# Altium footprint library MF_IC_Digital.PCBLIB: 16 footprints
Each footprint in its own frame and in the unit in brackets; x right, y up, seen from the top. Pads: shape width x height; smd on the part's side, far side on the other; paste and mask are expansions set on the pad; w line width, h text height; cw(c..) or ccw(c..) is an arc to the next point about the centre after c.
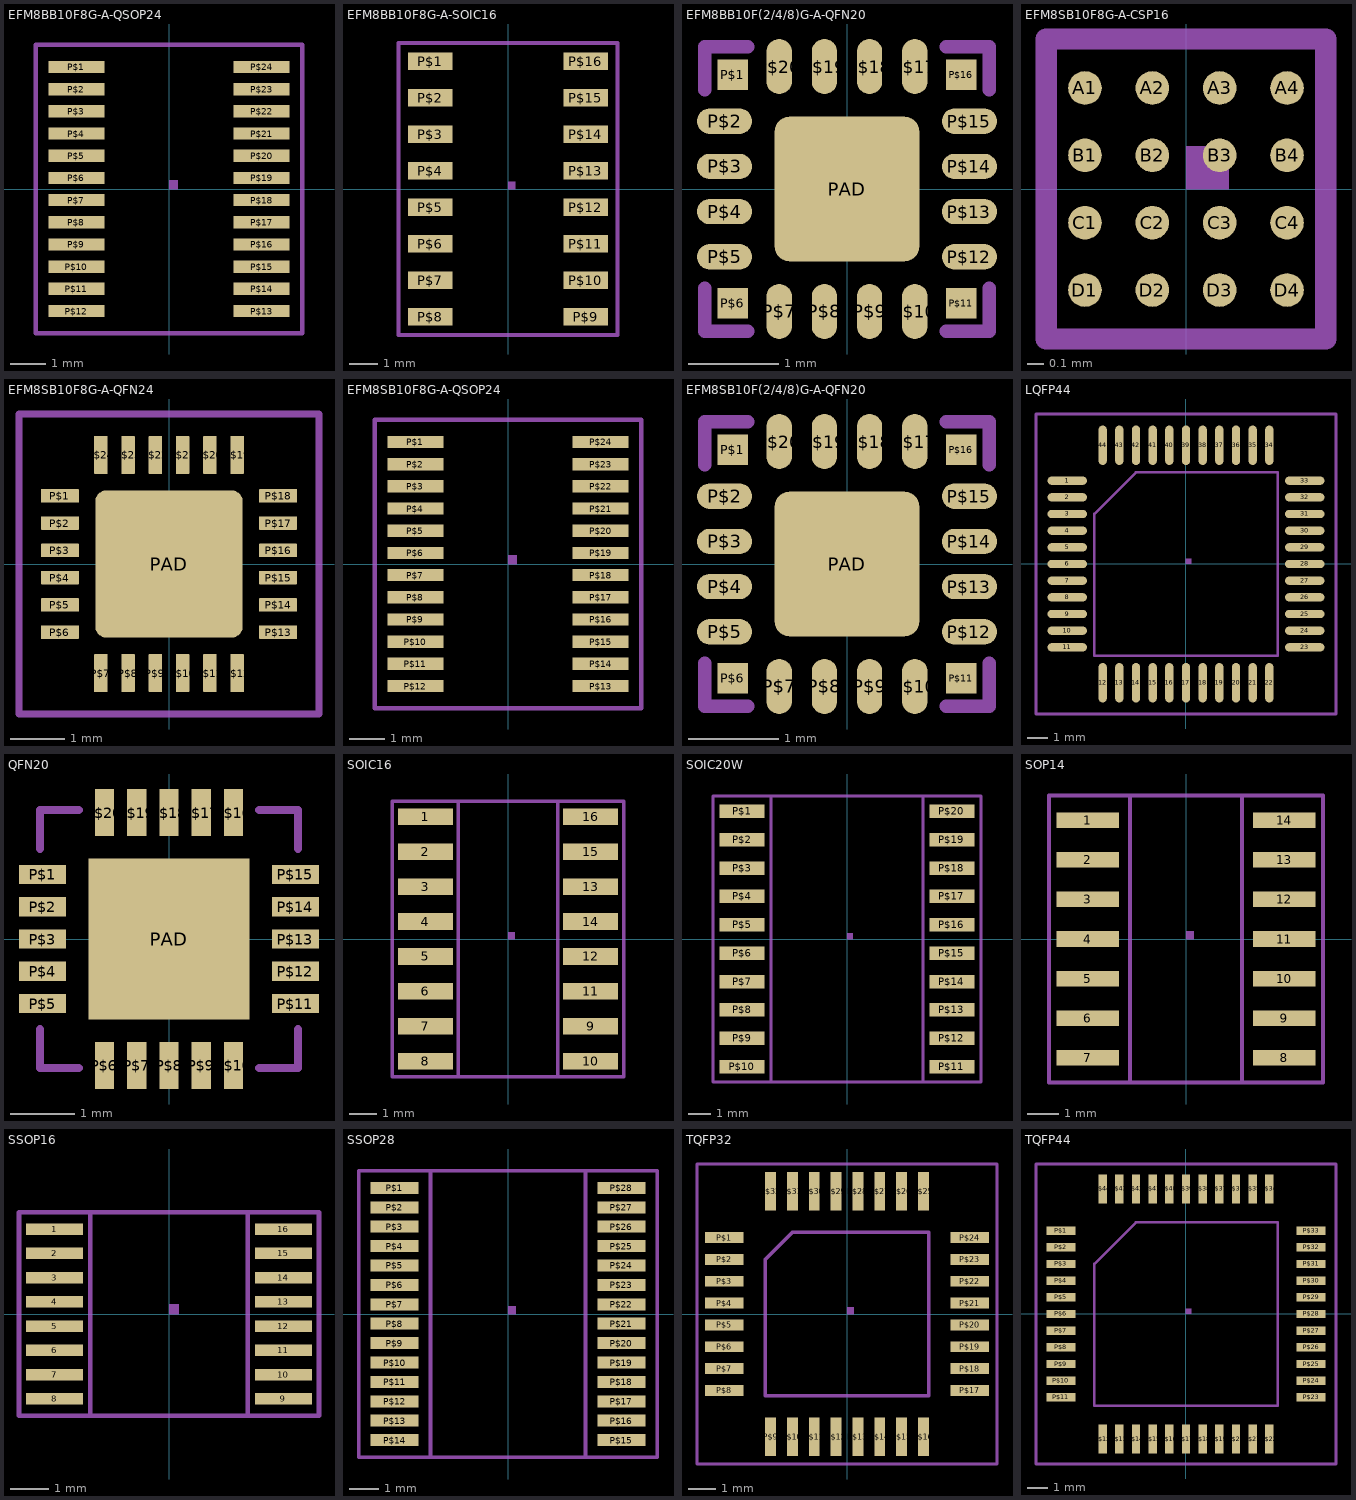
[diagram p0: the footprints below, top view; thin cyan lines are the x and y axes]

## EFM8BB10F8G-A-QSOP24 [mm]
pads (24):
  rect 1.6x0.35 smd: P$1(-2.65,3.492) P$2(-2.65,2.857) P$3(-2.65,2.222) P$4(-2.65,1.587) P$5(-2.65,0.953) P$6(-2.65,0.318) P$7(-2.65,-0.318) P$8(-2.65,-0.953) P$9(-2.65,-1.587) P$10(-2.65,-2.222) P$11(-2.65,-2.857) P$12(-2.65,-3.492) P$13(2.65,-3.492) P$14(2.65,-2.857) P$15(2.65,-2.222) P$16(2.65,-1.587) P$17(2.65,-0.953) P$18(2.65,-0.318) P$19(2.65,0.318) P$20(2.65,0.953) P$21(2.65,1.587) P$22(2.65,2.222) P$23(2.65,2.857) P$24(2.65,3.492)
Mechanical 22:
  region: 0,0 0.254,0 0.254,0.254 0,0.254
  region: 0,0 0.254,0 0.254,0.254 0,0.254
  lines w0.127: -3.81,-4.127 3.81,-4.127 3.81,4.127 -3.81,4.127 -3.81,-4.127

## EFM8BB10F8G-A-SOIC16 [mm]
pads (16):
  rect 1.55x0.6 smd: P$1(-2.7,4.445) P$2(-2.7,3.175) P$3(-2.7,1.905) P$4(-2.7,0.635) P$5(-2.7,-0.635) P$6(-2.7,-1.905) P$7(-2.7,-3.175) P$8(-2.7,-4.445) P$9(2.7,-4.445) P$10(2.7,-3.175) P$11(2.7,-1.905) P$12(2.7,-0.635) P$13(2.7,0.635) P$14(2.7,1.905) P$15(2.7,3.175) P$16(2.7,4.445)
Mechanical 22:
  region: 0,0 0.254,0 0.254,0.254 0,0.254
  region: 0,0 0.254,0 0.254,0.254 0,0.254
  lines w0.127: -3.81,-5.08 3.81,-5.08 3.81,5.08 -3.81,5.08 -3.81,-5.08

## EFM8BB10F(2/4/8)G-A-QFN20 [mm]
pads (21):
  rect 0.34x0.34 smd: P$1(-1.265,1.265) P$6(-1.265,-1.265) P$11(1.265,-1.265) P$16(1.265,1.265)
  rrect100% 0.61x0.28 smd: P$2(-1.355,0.75) P$3(-1.355,0.25) P$4(-1.355,-0.25) P$5(-1.355,-0.75) P$12(1.355,-0.75) P$13(1.355,-0.25) P$14(1.355,0.25) P$15(1.355,0.75)
  rrect100% 0.28x0.61 smd: P$7(-0.75,-1.355) P$8(-0.25,-1.355) P$9(0.25,-1.355) P$10(0.75,-1.355) P$17(0.75,1.355) P$18(0.25,1.355) P$19(-0.25,1.355) P$20(-0.75,1.355)
  rrect20% 1.6x1.6 smd paste+0: PAD(0,0)
Top Paste:
  region: 0,0 0.254,0 0.254,0.254 0,0.254
  region: 0,0 0.254,0 0.254,0.254 0,0.254
  region: 0,0 0.254,0 0.254,0.254 0,0.254
  region: 0,0 0.254,0 0.254,0.254 0,0.254
Mechanical 22:
  region: 0,0 0.254,0 0.254,0.254 0,0.254
  lines w0.15: -1.575,-1.1 -1.575,-1.575 -1.1,-1.575 ; -1.575,1.1 -1.575,1.575 -1.1,1.575 ; 1.1,-1.575 1.575,-1.575 1.575,-1.1 ; 1.1,1.575 1.575,1.575 1.575,1.1

## EFM8SB10F8G-A-CSP16 [mm]
pads (16):
  rrect100% 0.2x0.2 smd: A1(-0.6,0.6) A2(-0.2,0.6) A3(0.2,0.6) A4(0.6,0.6) B1(-0.6,0.2) B2(-0.2,0.2) B3(0.2,0.2) B4(0.6,0.2) C1(-0.6,-0.2) C2(-0.2,-0.2) C3(0.2,-0.2) C4(0.6,-0.2) D1(-0.6,-0.6) D2(-0.2,-0.6) D3(0.2,-0.6) D4(0.6,-0.6)
Mechanical 22:
  region: 0,0 0.254,0 0.254,0.254 0,0.254
  lines w0.127: -0.83,-0.891 0.83,-0.891 0.83,0.891 -0.83,0.891 -0.83,-0.891

## EFM8SB10F8G-A-QFN24 [mm]
pads (25):
  rrect15% 0.7x0.25 smd: P$1(-2,1.25) P$2(-2,0.75) P$3(-2,0.25) P$4(-2,-0.25) P$5(-2,-0.75) P$6(-2,-1.25) P$13(2,-1.25) P$14(2,-0.75) P$15(2,-0.25) P$16(2,0.25) P$17(2,0.75) P$18(2,1.25)
  rrect15% 0.25x0.7 smd: P$7(-1.25,-2) P$8(-0.75,-2) P$9(-0.25,-2) P$10(0.25,-2) P$11(0.75,-2) P$12(1.25,-2) P$19(1.25,2) P$20(0.75,2) P$21(0.25,2) P$22(-0.25,2) P$23(-0.75,2) P$24(-1.25,2)
  rrect15% 2.7x2.7 smd paste+0: PAD(0,0)
Top Paste:
  region: 0,0 0.254,0 0.254,0.254 0,0.254
  region: 0,0 0.254,0 0.254,0.254 0,0.254
  region: 0,0 0.254,0 0.254,0.254 0,0.254
  region: 0,0 0.254,0 0.254,0.254 0,0.254
Mechanical 22:
  region: 0,0 0.254,0 0.254,0.254 0,0.254
  region: 0,0 0.254,0 0.254,0.254 0,0.254
  lines w0.127: -2.75,-2.75 2.75,-2.75 2.75,2.75 -2.75,2.75 -2.75,-2.75

## EFM8SB10F8G-A-QSOP24 [mm]
pads (24):
  rect 1.6x0.35 smd: P$1(-2.65,3.492) P$2(-2.65,2.857) P$3(-2.65,2.222) P$4(-2.65,1.587) P$5(-2.65,0.953) P$6(-2.65,0.318) P$7(-2.65,-0.318) P$8(-2.65,-0.953) P$9(-2.65,-1.587) P$10(-2.65,-2.222) P$11(-2.65,-2.857) P$12(-2.65,-3.492) P$13(2.65,-3.492) P$14(2.65,-2.857) P$15(2.65,-2.222) P$16(2.65,-1.587) P$17(2.65,-0.953) P$18(2.65,-0.318) P$19(2.65,0.318) P$20(2.65,0.953) P$21(2.65,1.587) P$22(2.65,2.222) P$23(2.65,2.857) P$24(2.65,3.492)
Mechanical 22:
  region: 0,0 0.254,0 0.254,0.254 0,0.254
  region: 0,0 0.254,0 0.254,0.254 0,0.254
  lines w0.127: -3.81,-4.127 3.81,-4.127 3.81,4.127 -3.81,4.127 -3.81,-4.127

## EFM8SB10F(2/4/8)G-A-QFN20 [mm]
pads (21):
  rect 0.34x0.34 smd: P$1(-1.265,1.265) P$6(-1.265,-1.265) P$11(1.265,-1.265) P$16(1.265,1.265)
  rrect100% 0.61x0.28 smd: P$2(-1.355,0.75) P$3(-1.355,0.25) P$4(-1.355,-0.25) P$5(-1.355,-0.75) P$12(1.355,-0.75) P$13(1.355,-0.25) P$14(1.355,0.25) P$15(1.355,0.75)
  rrect100% 0.28x0.61 smd: P$7(-0.75,-1.355) P$8(-0.25,-1.355) P$9(0.25,-1.355) P$10(0.75,-1.355) P$17(0.75,1.355) P$18(0.25,1.355) P$19(-0.25,1.355) P$20(-0.75,1.355)
  rrect20% 1.6x1.6 smd paste+0: PAD(0,0)
Top Paste:
  region: 0,0 0.254,0 0.254,0.254 0,0.254
  region: 0,0 0.254,0 0.254,0.254 0,0.254
  region: 0,0 0.254,0 0.254,0.254 0,0.254
  region: 0,0 0.254,0 0.254,0.254 0,0.254
Mechanical 22:
  region: 0,0 0.254,0 0.254,0.254 0,0.254
  lines w0.15: -1.575,-1.1 -1.575,-1.575 -1.1,-1.575 ; -1.575,1.1 -1.575,1.575 -1.1,1.575 ; 1.1,-1.575 1.575,-1.575 1.575,-1.1 ; 1.1,1.575 1.575,1.575 1.575,1.1

## LQFP44 [mm]
pads (44):
  rrect100% 1.9x0.4 smd: 1(-5.7,4) 2(-5.7,3.2) 3(-5.7,2.4) 4(-5.7,1.6) 5(-5.7,0.8) 6(-5.7,0) 7(-5.7,-0.8) 8(-5.7,-1.6) 9(-5.7,-2.4) 10(-5.7,-3.2) 11(-5.7,-4) 23(5.7,-4) 24(5.7,-3.2) 25(5.7,-2.4) 26(5.7,-1.6) 27(5.7,-0.8) 28(5.7,0) 29(5.7,0.8) 30(5.7,1.6) 31(5.7,2.4) 32(5.7,3.2) 33(5.7,4)
  rrect100% 0.4x1.9 smd: 12(-4,-5.7) 13(-3.2,-5.7) 14(-2.4,-5.7) 15(-1.6,-5.7) 16(-0.8,-5.7) 17(0,-5.7) 18(0.8,-5.7) 19(1.6,-5.7) 20(2.4,-5.7) 21(3.2,-5.7) 22(4,-5.7) 34(4,5.7) 35(3.2,5.7) 36(2.4,5.7) 37(1.6,5.7) 38(0.8,5.7) 39(0,5.7) 40(-0.8,5.7) 41(-1.6,5.7) 42(-2.4,5.7) 43(-3.2,5.7) 44(-4,5.7)
Mechanical 22:
  region: 0,0 0.254,0 0.254,0.254 0,0.254
  lines w0.127: -7.2,-7.2 7.2,-7.2 7.2,7.2 -7.2,7.2 -7.2,-7.2 ; -4.4,-4.4 -4.4,2.4 -2.4,4.4 4.4,4.4 4.4,-4.4 -4.4,-4.4

## QFN20 [mm]
pads (21):
  rect 0.73x0.3 smd: P$1(-1.96,1) P$2(-1.96,0.5) P$3(-1.96,0) P$4(-1.96,-0.5) P$5(-1.96,-1) P$11(1.96,-1) P$12(1.96,-0.5) P$13(1.96,0) P$14(1.96,0.5) P$15(1.96,1)
  rect 0.3x0.73 smd: P$6(-1,-1.96) P$7(-0.5,-1.96) P$8(0,-1.96) P$9(0.5,-1.96) P$10(1,-1.96) P$16(1,1.96) P$17(0.5,1.96) P$18(0,1.96) P$19(-0.5,1.96) P$20(-1,1.96)
  rect 2.5x2.5 smd paste+0: PAD(0,0)
Top Paste:
  region: 0,0 0.254,0 0.254,0.254 0,0.254
  region: 0,0 0.254,0 0.254,0.254 0,0.254
  region: 0,0 0.254,0 0.254,0.254 0,0.254
  region: 0,0 0.254,0 0.254,0.254 0,0.254
Mechanical 22:
  region: 0,0 0.254,0 0.254,0.254 0,0.254
  lines w0.127: -2,-1.4 -2,-2 -1.4,-2 ; -2,1.4 -2,2 -1.4,2 ; 1.4,-2 2,-2 2,-1.4 ; 1.4,2 2,2 2,1.4

## SOIC16 [mm]
pads (16):
  rect 2x0.6 smd: 1(-3,4.445) 2(-3,3.175) 3(-3,1.905) 4(-3,0.635) 5(-3,-0.635) 6(-3,-1.905) 7(-3,-3.175) 8(-3,-4.445) 9(3,-3.175) 10(3,-4.445) 11(3,-1.905) 12(3,-0.635) 13(3,1.905) 14(3,0.635) 15(3,3.175) 16(3,4.445)
Mechanical 22:
  region: 0,0 0.254,0 0.254,0.254 0,0.254
  region: 0,0 0.254,0 0.254,0.254 0,0.254
  lines w0.127: -1.8,-5 1.8,-5 ; -1.8,-5 -4.2,-5 -4.2,5 -1.8,5 ; -1.8,-5 -1.8,5 ; -1.8,5 1.8,5 ; 1.8,-5 4.2,-5 4.2,5 1.8,5 ; 1.8,-5 1.8,5

## SOIC20W [mm]
pads (20):
  rect 2x0.6 smd: P$1(-4.7,5.715) P$2(-4.7,4.445) P$3(-4.7,3.175) P$4(-4.7,1.905) P$5(-4.7,0.635) P$6(-4.7,-0.635) P$7(-4.7,-1.905) P$8(-4.7,-3.175) P$9(-4.7,-4.445) P$10(-4.7,-5.715) P$11(4.7,-5.715) P$12(4.7,-4.445) P$13(4.7,-3.175) P$14(4.7,-1.905) P$15(4.7,-0.635) P$16(4.7,0.635) P$17(4.7,1.905) P$18(4.7,3.175) P$19(4.7,4.445) P$20(4.7,5.715)
Mechanical 22:
  region: 0,0 0.254,0 0.254,0.254 0,0.254
  region: 0,0 0.254,0 0.254,0.254 0,0.254
  lines w0.127: -3.4,-6.4 3.4,-6.4 ; -3.4,-6.4 -6,-6.4 -6,6.4 -3.4,6.4 ; -3.4,-6.4 -3.4,6.4 ; -3.4,6.4 3.4,6.4 ; 3.4,-6.4 6,-6.4 6,6.4 3.4,6.4 ; 3.4,-6.4 3.4,6.4

## SOP14 [mm]
pads (14):
  rect 2x0.5 smd: 1(-3.15,3.81) 2(-3.15,2.54) 3(-3.15,1.27) 4(-3.15,0) 5(-3.15,-1.27) 6(-3.15,-2.54) 7(-3.15,-3.81) 8(3.15,-3.81) 9(3.15,-2.54) 10(3.15,-1.27) 11(3.15,0) 12(3.15,1.27) 13(3.15,2.54) 14(3.15,3.81)
Mechanical 22:
  region: 0,0 0.254,0 0.254,0.254 0,0.254
  region: 0,0 0.254,0 0.254,0.254 0,0.254
  lines w0.127: -1.8,-4.6 1.8,-4.6 ; -1.8,-4.6 -4.4,-4.6 -4.4,4.6 -1.8,4.6 ; -1.8,-4.6 -1.8,4.6 ; -1.8,4.6 1.8,4.6 ; 1.8,-4.6 4.4,-4.6 4.4,4.6 1.8,4.6 ; 1.8,-4.6 1.8,4.6

## SSOP16 [mm]
pads (16):
  rect 1.5x0.3 smd: 1(-3,2.222) 2(-3,1.587) 3(-3,0.953) 4(-3,0.318) 5(-3,-0.318) 6(-3,-0.953) 7(-3,-1.587) 8(-3,-2.222) 9(3,-2.222) 10(3,-1.587) 11(3,-0.953) 12(3,-0.318) 13(3,0.318) 14(3,0.953) 15(3,1.587) 16(3,2.222)
Mechanical 22:
  region: 0,0 0.254,0 0.254,0.254 0,0.254
  region: 0,0 0.254,0 0.254,0.254 0,0.254
  lines w0.127: -2.067,-2.666 2.067,-2.666 ; -2.067,-2.666 -3.933,-2.666 -3.933,2.666 -2.067,2.666 ; -2.067,-2.666 -2.067,2.666 ; -2.067,2.666 2.067,2.666 ; 2.067,-2.666 3.933,-2.666 3.933,2.666 2.067,2.666 ; 2.067,-2.666 2.067,2.666

## SSOP28 [mm]
pads (28):
  rect 1.6x0.4 smd: P$1(-3.8,4.225) P$2(-3.8,3.575) P$3(-3.8,2.925) P$4(-3.8,2.275) P$5(-3.8,1.625) P$6(-3.8,0.975) P$7(-3.8,0.325) P$8(-3.8,-0.325) P$9(-3.8,-0.975) P$10(-3.8,-1.625) P$11(-3.8,-2.275) P$12(-3.8,-2.925) P$13(-3.8,-3.575) P$14(-3.8,-4.225) P$15(3.8,-4.225) P$16(3.8,-3.575) P$17(3.8,-2.925) P$18(3.8,-2.275) P$19(3.8,-1.625) P$20(3.8,-0.975) P$21(3.8,-0.325) P$22(3.8,0.325) P$23(3.8,0.975) P$24(3.8,1.625) P$25(3.8,2.275) P$26(3.8,2.925) P$27(3.8,3.575) P$28(3.8,4.225)
Mechanical 22:
  region: 0,0 0.254,0 0.254,0.254 0,0.254
  region: 0,0 0.254,0 0.254,0.254 0,0.254
  lines w0.127: -2.6,-4.8 2.6,-4.8 ; -2.6,-4.8 -5,-4.8 -5,4.8 -2.6,4.8 ; -2.6,-4.8 -2.6,4.8 ; -2.6,4.8 2.6,4.8 ; 2.6,-4.8 5,-4.8 5,4.8 2.6,4.8 ; 2.6,-4.8 2.6,4.8

## TQFP32 [mm]
pads (32):
  rect 1.4x0.4 smd: P$1(-4.5,2.8) P$2(-4.5,2) P$3(-4.5,1.2) P$4(-4.5,0.4) P$5(-4.5,-0.4) P$6(-4.5,-1.2) P$7(-4.5,-2) P$8(-4.5,-2.8) P$17(4.5,-2.8) P$18(4.5,-2) P$19(4.5,-1.2) P$20(4.5,-0.4) P$21(4.5,0.4) P$22(4.5,1.2) P$23(4.5,2) P$24(4.5,2.8)
  rect 0.4x1.4 smd: P$9(-2.8,-4.5) P$10(-2,-4.5) P$11(-1.2,-4.5) P$12(-0.4,-4.5) P$13(0.4,-4.5) P$14(1.2,-4.5) P$15(2,-4.5) P$16(2.8,-4.5) P$25(2.8,4.5) P$26(2,4.5) P$27(1.2,4.5) P$28(0.4,4.5) P$29(-0.4,4.5) P$30(-1.2,4.5) P$31(-2,4.5) P$32(-2.8,4.5)
Mechanical 22:
  region: 0,0 0.254,0 0.254,0.254 0,0.254
  lines w0.127: -5.5,-5.5 5.5,-5.5 5.5,5.5 -5.5,5.5 -5.5,-5.5 ; -3,-3 -3,2 -2,3 3,3 3,-3 -3,-3

## TQFP44 [mm]
pads (44):
  rect 1.4x0.4 smd: P$1(-6,4) P$2(-6,3.2) P$3(-6,2.4) P$4(-6,1.6) P$5(-6,0.8) P$6(-6,0) P$7(-6,-0.8) P$8(-6,-1.6) P$9(-6,-2.4) P$10(-6,-3.2) P$11(-6,-4) P$23(6,-4) P$24(6,-3.2) P$25(6,-2.4) P$26(6,-1.6) P$27(6,-0.8) P$28(6,0) P$29(6,0.8) P$30(6,1.6) P$31(6,2.4) P$32(6,3.2) P$33(6,4)
  rect 0.4x1.4 smd: P$12(-4,-6) P$13(-3.2,-6) P$14(-2.4,-6) P$15(-1.6,-6) P$16(-0.8,-6) P$17(0,-6) P$18(0.8,-6) P$19(1.6,-6) P$20(2.4,-6) P$21(3.2,-6) P$22(4,-6) P$34(4,6) P$35(3.2,6) P$36(2.4,6) P$37(1.6,6) P$38(0.8,6) P$39(0,6) P$40(-0.8,6) P$41(-1.6,6) P$42(-2.4,6) P$43(-3.2,6) P$44(-4,6)
Mechanical 22:
  region: 0,0 0.254,0 0.254,0.254 0,0.254
  lines w0.127: -7.2,-7.2 7.2,-7.2 7.2,7.2 -7.2,7.2 -7.2,-7.2 ; -4.4,-4.4 -4.4,2.4 -2.4,4.4 4.4,4.4 4.4,-4.4 -4.4,-4.4